# Altium integrated library EEEHA1H101UP.IntLib: 1 symbol
Pins are listed as number, name and electrical type; pins without a type are passive.

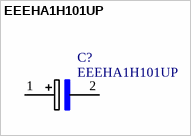
[diagram p0: symbol EEEHA1H101UP]

## EEEHA1H101UP
designator C?
Cap Aluminum 100uF 50V 20% _8 X 10.2mm_ SMD 110mA 2000 hr 105آ°C T/R; MF: Panasonic Electronic; SnapEDA_Link: https://www.snapeda.com/parts/EEEHA1H101UP/Panasonic%20Electronic%20Components/view-part/?ref=snap; MP: EEEHA1H101UP; Availability: Unavailable; Price: None; Package: Radial Panasonic Electronic; Value: *
footprint *HAV(F)
pins: 1 POS (io), 2 NEG (io)